# Altium footprint library SRD-03VDC-SL-C.PcbLib: 1 footprints
Each footprint in its own frame and in the unit in brackets; x right, y up, seen from the top. Pads: shape width x height; smd on the part's side, far side on the other; paste and mask are expansions set on the pad; w line width, h text height; cw(c..) or ccw(c..) is an arc to the next point about the centre after c.
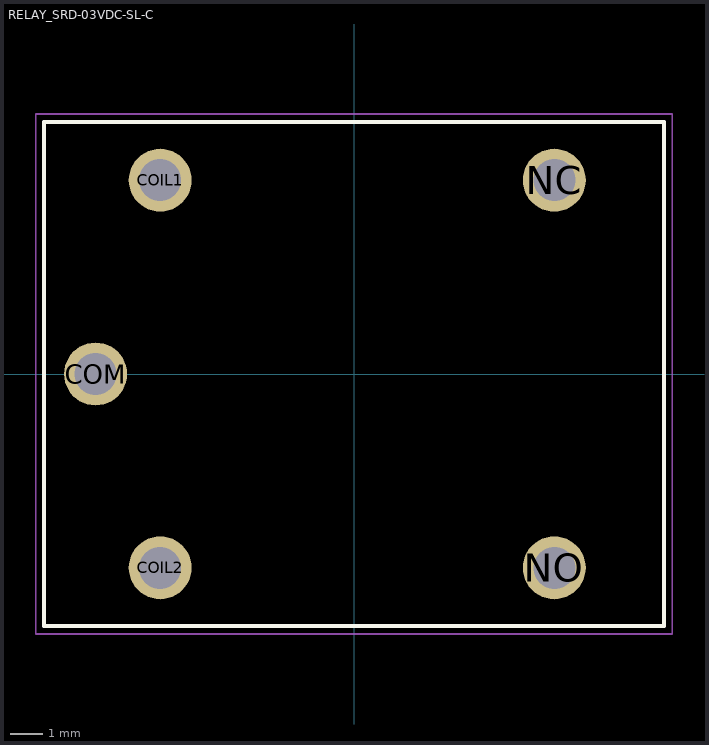
[diagram p0: the footprint, top view; thin cyan lines are the x and y axes]

## RELAY_SRD-03VDC-SL-C [mm]
pads (5):
  round 1.95 hole 1.3: COIL1(-6,6) COIL2(-6,-6) COM(-8,0) NC(6.2,6) NO(6.2,-6)
Top Overlay:
  lines w0.127: -9.6,-7.8 9.6,-7.8 9.6,7.8 -9.6,7.8 -9.6,-7.8
Mechanical 13:
  lines w0.127: -9.6,-7.8 9.6,-7.8 9.6,7.8 -9.6,7.8 -9.6,-7.8
Mechanical 15:
  lines w0.05: -9.85,-8.05 9.85,-8.05 9.85,8.05 -9.85,8.05 -9.85,-8.05
3D body "step_temp.STEP": height 15.8, standoff -3, extent -9.6,-7.8 9.6,7.8